# Altium footprint library Buck Modules.PcbLib: 1 footprints
Each footprint in its own frame and in the unit in brackets; x right, y up, seen from the top. Pads: shape width x height; smd on the part's side, far side on the other; paste and mask are expansions set on the pad; w line width, h text height; cw(c..) or ccw(c..) is an arc to the next point about the centre after c.
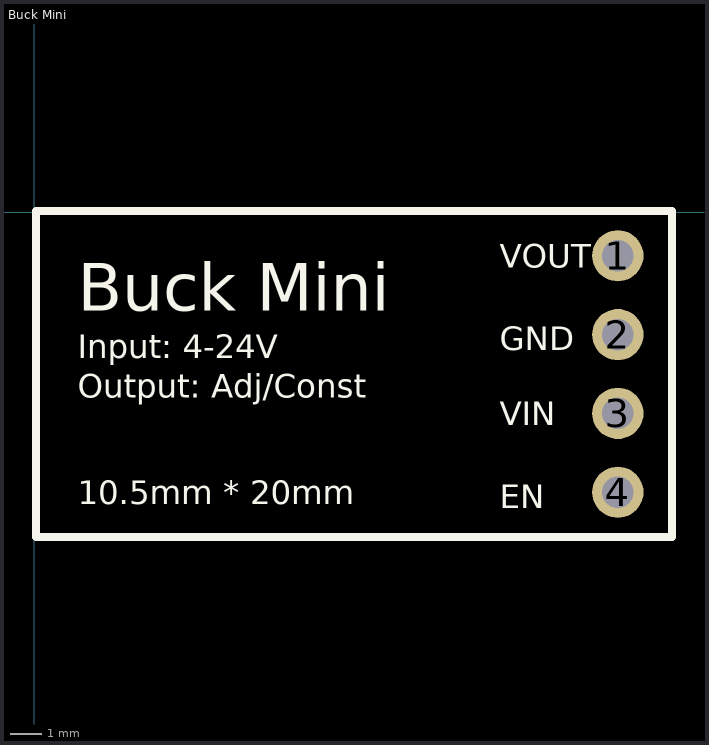
[diagram p0: the footprint, top view; thin cyan lines are the x and y axes]

## Buck Mini [mil] "输入：4-24V / 输出：可调或恒定（0.8-17V，通过短接配置） / 体积大小：10.5mm*20mm"
pads (4):
  round 65 hole 40: 1(740,-55) 2(740,-155) 3(740,-255) 4(740,-355)
Top Overlay:
  lines w10: 1.81,-411.69 1.81,1.69 808.9,1.69 808.9,-411.69 1.81,-411.69
  text "10.5mm * 20mm" at 55,-370 h30
  text "Output: Adj/Const" at 55,-235 h30
  text "Input: 4-24V" at 55,-185 h30
  text "Buck Mini" at 55,-125 h60
  text "VOUT" at 590,-70 h30
  text "GND" at 590,-175 h30
  text "VIN" at 590,-270 h30
  text "EN" at 590,-375 h30